# Altium schematic symbol library WE-CMBH.SchLib: 7 symbols
Pins are listed as number, name and electrical type; pins without a type are passive.

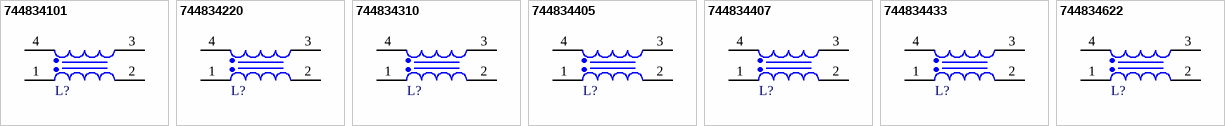
[diagram p0: symbols 744834101 to 744834622]

## 744834101
designator L?, comment 1mH  (value not drawn)
WE-CMBH Horizontal Common Mode Power Line Choke, THT, Type L, 1mH, 10A, 12.5mOhm; Manufacturer Part Number: 744834101; Manufacturer: Wurth Elektronik; Case/Size Code: Type L; Insulation Test Voltage (AC): 1500V; Material: MnZn; Rated Voltage (AC): 250V; Category: Common Mode Chokes; Match Code: WE-CMBH; ComponentLink1Description: Website Link; ComponentLink1URL: https://www.we-online.com/redexpert/article/744834101?ad; ComponentLink2Description: Datasheet Link; ComponentLink2URL: https://www.we-online.com/redexpert/spec/744834101?ad; Mount: Through Hole; Operating Temperature Max: 125°C; Operating Temperature Min: -40°C; Packaging: Tray; Length: 32.5mm; Width: 28mm; Height: 22mm; DC Resistance Max: 12.5mOhm; Inductance: 1mH; Rated Current: 10A
footprint WE-CMBH_Type L_744834101
simulation model L_744834101_1m
pins: 1, 2, 3, 4

## 744834220
designator L?, comment 20mH  (value not drawn)
WE-CMBH Horizontal Common Mode Power Line Choke, THT, Type L, 20mH, 2A, 230mOhm; Manufacturer Part Number: 744834220; Manufacturer: Wurth Elektronik; Case/Size Code: Type L; Insulation Test Voltage (AC): 1500V; Material: MnZn; Rated Voltage (AC): 250V; Category: Common Mode Chokes; Match Code: WE-CMBH; ComponentLink1Description: Website Link; ComponentLink1URL: https://www.we-online.com/redexpert/article/744834220?ad; ComponentLink2Description: Datasheet Link; ComponentLink2URL: https://www.we-online.com/redexpert/spec/744834220?ad; Mount: Through Hole; Operating Temperature Max: 125°C; Operating Temperature Min: -40°C; Packaging: Tray; Length: 32.5mm; Width: 28mm; Height: 22mm; DC Resistance Max: 230mOhm; Inductance: 20mH; Rated Current: 2A
footprint WE-CMBH_Type L_744834220
simulation model L_744834220_20m
pins: 1, 2, 3, 4

## 744834310
designator L?, comment 10mH  (value not drawn)
WE-CMBH Horizontal Common Mode Power Line Choke, THT, Type L, 10mH, 3A, 110mOhm; Manufacturer Part Number: 744834310; Manufacturer: Wurth Elektronik; Case/Size Code: Type L; Insulation Test Voltage (AC): 1500V; Material: MnZn; Rated Voltage (AC): 250V; Category: Common Mode Chokes; Match Code: WE-CMBH; ComponentLink1Description: Website Link; ComponentLink1URL: https://www.we-online.com/redexpert/article/744834310?ad; ComponentLink2Description: Datasheet Link; ComponentLink2URL: https://www.we-online.com/redexpert/spec/744834310?ad; Mount: Through Hole; Operating Temperature Max: 125°C; Operating Temperature Min: -40°C; Packaging: Tray; Length: 32.5mm; Width: 28mm; Height: 22mm; DC Resistance Max: 110mOhm; Inductance: 10mH; Rated Current: 3A
footprint WE-CMBH_Type L_744834310
simulation model L_744834310_10m
pins: 1, 2, 3, 4

## 744834405
designator L?, comment 5mH  (value not drawn)
WE-CMBH Horizontal Common Mode Power Line Choke, THT, Type L, 5mH, 4A, 50mOhm; Manufacturer Part Number: 744834405; Manufacturer: Wurth Elektronik; Case/Size Code: Type L; Insulation Test Voltage (AC): 1500V; Material: MnZn; Rated Voltage (AC): 250V; Category: Common Mode Chokes; Match Code: WE-CMBH; ComponentLink1Description: Website Link; ComponentLink1URL: https://www.we-online.com/redexpert/article/744834405?ad; ComponentLink2Description: Datasheet Link; ComponentLink2URL: https://www.we-online.com/redexpert/spec/744834405?ad; Mount: Through Hole; Operating Temperature Max: 125°C; Operating Temperature Min: -40°C; Packaging: Tray; Length: 32.5mm; Width: 28mm; Height: 22mm; DC Resistance Max: 50mOhm; Inductance: 5mH; Rated Current: 4A
footprint WE-CMBH_Type L_744834405
simulation model L_744834405_5m
pins: 1, 2, 3, 4

## 744834407
designator L?, comment 7mH  (value not drawn)
WE-CMBH Horizontal Common Mode Power Line Choke, THT, Type L, 7mH, 3.5A, 80mOhm; Manufacturer Part Number: 744834407; Manufacturer: Wurth Elektronik; Case/Size Code: Type L; Insulation Test Voltage (AC): 1500V; Material: MnZn; Rated Voltage (AC): 250V; Category: Common Mode Chokes; Match Code: WE-CMBH; ComponentLink1Description: Website Link; ComponentLink1URL: https://www.we-online.com/redexpert/article/744834407?ad; ComponentLink2Description: Datasheet Link; ComponentLink2URL: https://www.we-online.com/redexpert/spec/744834407?ad; Mount: Through Hole; Operating Temperature Max: 125°C; Operating Temperature Min: -40°C; Packaging: Tray; Length: 32.5mm; Width: 28mm; Height: 22mm; DC Resistance Max: 80mOhm; Inductance: 7mH; Rated Current: 3.5A
footprint WE-CMBH_Type L_744834407
simulation model L_744834407_7m
pins: 1, 2, 3, 4

## 744834433
designator L?, comment 3.3mH  (value not drawn)
WE-CMBH Horizontal Common Mode Power Line Choke, THT, Type L, 3.3mH, 5A, 37mOhm; Manufacturer Part Number: 744834433; Manufacturer: Wurth Elektronik; Case/Size Code: Type L; Insulation Test Voltage (AC): 1500V; Material: MnZn; Rated Voltage (AC): 250V; Category: Common Mode Chokes; Match Code: WE-CMBH; ComponentLink1Description: Website Link; ComponentLink1URL: https://www.we-online.com/redexpert/article/744834433?ad; ComponentLink2Description: Datasheet Link; ComponentLink2URL: https://www.we-online.com/redexpert/spec/744834433?ad; Mount: Through Hole; Operating Temperature Max: 125°C; Operating Temperature Min: -40°C; Packaging: Tray; Length: 32.5mm; Width: 28mm; Height: 22mm; DC Resistance Max: 37mOhm; Inductance: 3.3mH; Rated Current: 5A
footprint WE-CMBH_Type L_744834433
simulation model L_744834433_3.3m
pins: 1, 2, 3, 4

## 744834622
designator L?, comment 2.2mH  (value not drawn)
WE-CMBH Horizontal Common Mode Power Line Choke, THT, Type L, 2.2mH, 6A, 22mOhm; Manufacturer Part Number: 744834622; Manufacturer: Wurth Elektronik; Case/Size Code: Type L; Insulation Test Voltage (AC): 1500V; Material: MnZn; Rated Voltage (AC): 250V; Category: Common Mode Chokes; Match Code: WE-CMBH; ComponentLink1Description: Website Link; ComponentLink1URL: https://www.we-online.com/redexpert/article/744834622?ad; ComponentLink2Description: Datasheet Link; ComponentLink2URL: https://www.we-online.com/redexpert/spec/744834622?ad; Mount: Through Hole; Operating Temperature Max: 125°C; Operating Temperature Min: -40°C; Packaging: Tray; Length: 32.5mm; Width: 28mm; Height: 22mm; DC Resistance Max: 22mOhm; Inductance: 2.2mH; Rated Current: 6A
footprint WE-CMBH_Type L_744834622
simulation model L_744834622_2.2m
pins: 1, 2, 3, 4